# Altium footprint library USBConnectors.PCBLIB: 26 footprints (part 1 of 2)
Each footprint in its own frame and in the unit in brackets; x right, y up, seen from the top. Pads: shape width x height; smd on the part's side, far side on the other; paste and mask are expansions set on the pad; w line width, h text height; cw(c..) or ccw(c..) is an arc to the next point about the centre after c.
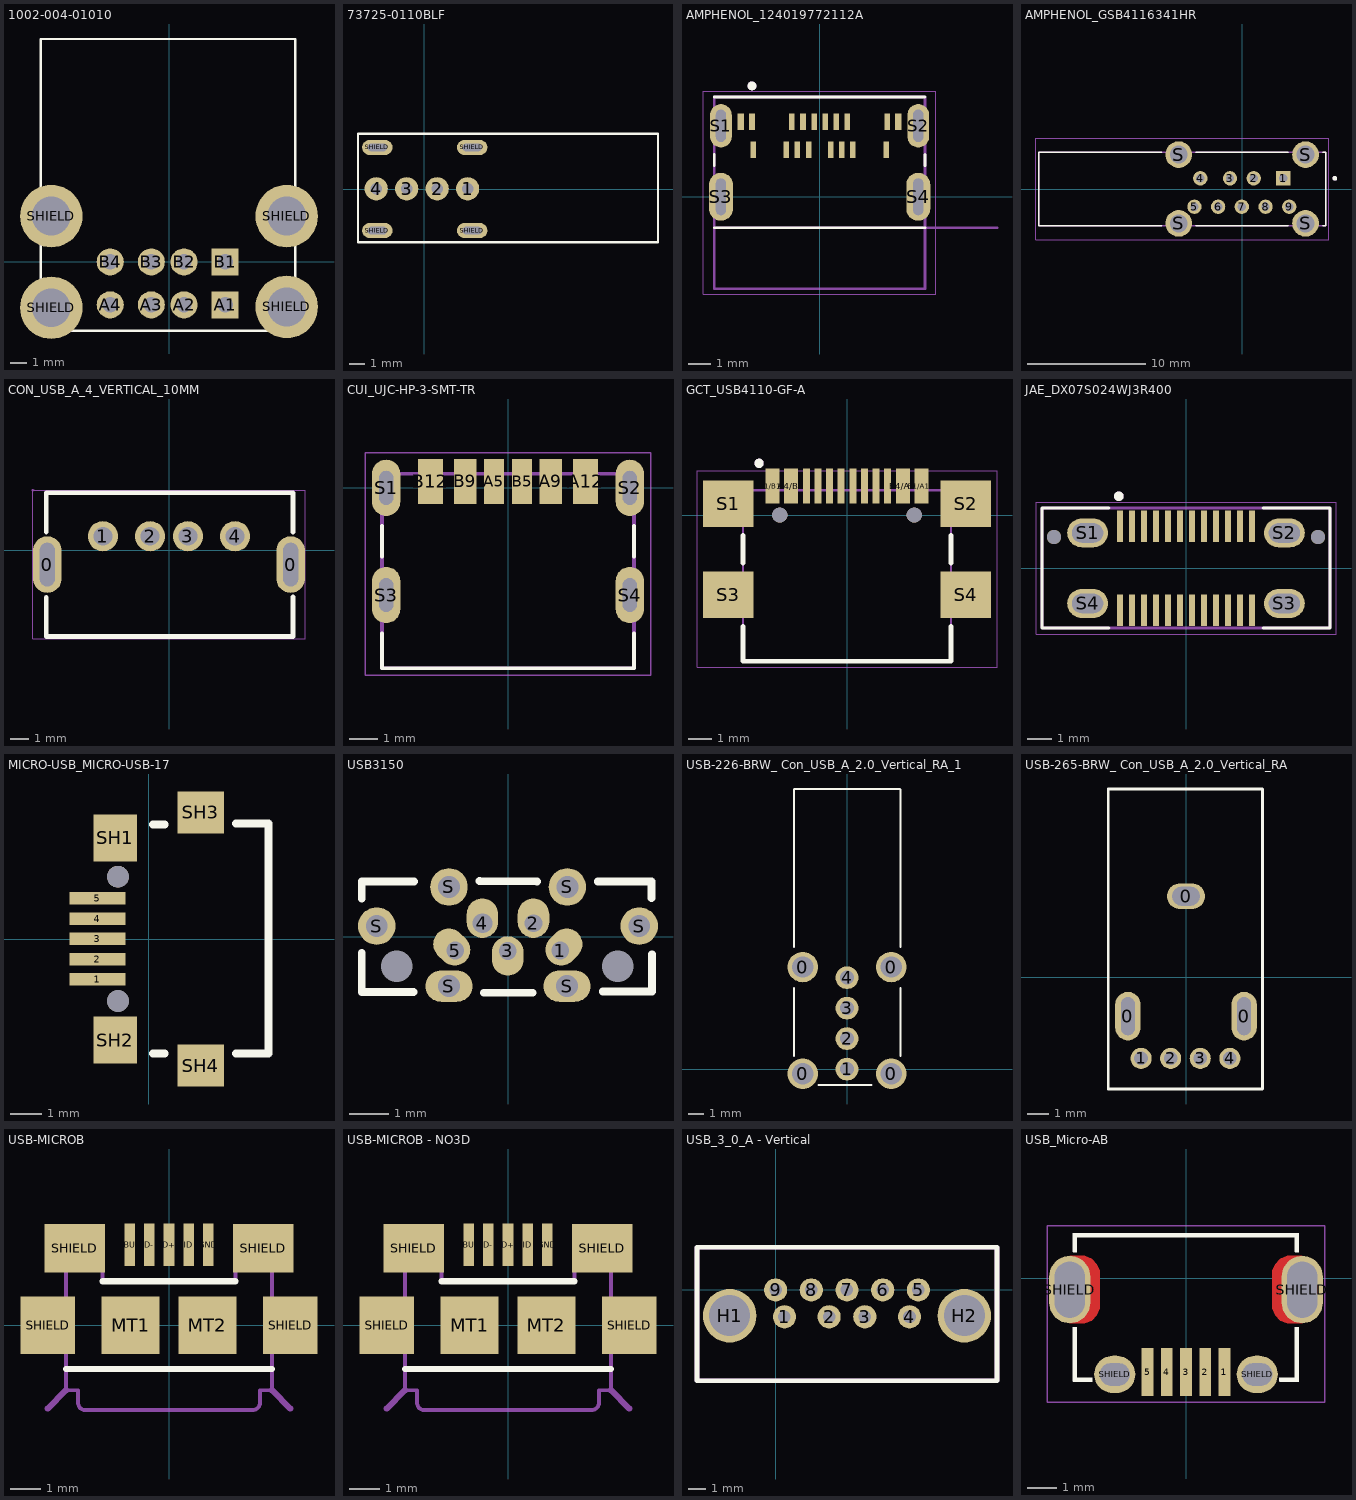
[diagram p0: the footprints below, top view; thin cyan lines are the x and y axes]

## 1002-004-01010 [mil]
pads (12):
  rect 65x65 hole 37: A1(134.5,-103) B1(134.5,0)
  round 65 hole 37: A2(36,-103) A3(-42.5,-103) A4(-141.1,-103) B2(36,0) B3(-42.5,0) B4(-141.1,0)
  round 150 hole 93: SHIELD(-282.5,-110) SHIELD(-282.5,110) SHIELD(282.5,-108) SHIELD(282.5,110)
Top Overlay:
  lines w5.91: -307.5,-165 302.5,-165 302.5,535 -307.5,535 -307.5,-165
3D body "1002-004-01010.step": height 636.33, standoff -158.95, extent -306.28,-163.81 299.61,535.01

## 73725-0110BLF [mil]
pads (8):
  round 60 hole 30: 1(112.22,0.5) 2(33.48,0.5) 3(-45.26,0.5) 4(-124,0.5)
  oval 78.74x39.37 hole 19.68 slot 49.21 at 0 deg: SHIELD(-121,-107.5) SHIELD(-121,107.5) SHIELD(124,-107.5) SHIELD(124,107.5)
Top Overlay:
  lines w5.91: -171,-137.5 -171,142.5 604,142.5 604,-137.5 -171,-137.5
3D body "73725-0110blfc.stp": height 572.47, standoff -128.93, extent -171.37,-140.17 604.22,140.49

## AMPHENOL_124019772112A [mm]
pads (22):
  rect 0.25x0.75 smd: A1(-3.05,3.375) A4(-1.25,3.375) A5(-0.75,3.375) A6(-0.25,3.375) A7(0.25,3.375) A8(0.75,3.375) A9(1.25,3.375) A12(3.05,3.375) B1(3,2.125) B4(1.5,2.125) B5(1,2.125) B6(0.5,2.125) B7(-0.5,2.125) B8(-1,2.125) B9(-1.5,2.125) B12(-3,2.125)
  rect 0.3x0.75 smd: G1(-3.55,3.375) G2(3.55,3.375)
  oval 0.98x1.96 hole 0.45 slot 1.45 at 90 deg: S1(-4.45,3.2) S2(4.45,3.2)
  oval 1.08x2.16 hole 0.45 slot 1.65 at 90 deg: S3(-4.45,0) S4(4.45,0)
Top Overlay:
  circle w0.2: c-3.05,5 r0.1
  lines w0.127: -4.75,-1.4 4.75,-1.4 ; -4.75,1.4 -4.75,1.9 ; -4.75,4.5 4.75,4.5 ; 4.75,1.4 4.75,1.9
Mechanical 13:
  circle w0.2: c-3.05,5 r0.1
  lines w0.127: 8,-1.4 -4.75,-1.4 ; -4.75,-1.4 -4.75,-4.15 4.75,-4.15 4.75,4.5 -4.75,4.5 -4.75,-1.4
  text "PCB EDGE" at 5.4,-1.2 h0.61
Mechanical 15:
  lines w0.05: -5.24,-4.4 5.24,-4.4 5.24,4.75 -5.24,4.75 -5.24,-4.4
3D body "124019772112A.step": height 3.54, standoff -0.52, extent -4.92,-4.16 4.93,4.49

## AMPHENOL_GSB4116341HR [mm]
height 14.6
pads (13):
  rect 1.208x1.208 hole 0.7: 1(3.48,0.9)
  round 1.208 hole 0.7: 2(0.98,0.9) 3(-1.02,0.9) 4(-3.52,0.9) 5(-4.02,-1.5) 6(-2.02,-1.5) 7(-0.02,-1.5) 8(1.98,-1.5) 9(3.98,-1.5)
  round 2.25 hole 1.5: S(-5.35,-2.9) S(-5.35,2.9) S(5.35,-2.9) S(5.35,2.9)
Top Overlay:
  circle w0.2: c7.82,0.9 r0.1
  lines w0.127: -6.795,-3.1 -17.13,-3.1 -17.13,3.1 -6.795,3.1 ; -3.905,-3.1 3.905,-3.1 ; -3.905,3.1 3.905,3.1 ; 6.795,-3.1 7.07,-3.1 7.07,3.1 6.795,3.1
Mechanical 13:
  circle w0.2: c7.82,0.9 r0.1
  lines w0.127: -17.13,-3.1 7.07,-3.1 7.07,3.1 -17.13,3.1 -17.13,-3.1
Mechanical 15:
  lines w0.05: -17.38,-4.275 -17.38,4.275 7.32,4.275 7.32,-4.275 -17.38,-4.275
3D body "664_GSB4116341HR.stp": height 14.7, standoff -2.74, extent -17.13,-3.75 7.07,3.75

## CON_USB_A_4_VERTICAL_10MM [mm]
pads (6):
  oval 1.524x3 hole 0.8 slot 2.3 at 90 deg: 0(-6.45,-0.75) 0(6.45,-0.75)
  round 1.6 hole 1: 1(-3.5,0.75) 2(-1,0.75) 3(1,0.75) 4(3.5,0.75)
Top Overlay:
  lines w0.254: -6.504,-2.48 -6.504,-4.56 6.577,-4.56 6.577,-2.473 ; -6.504,0.98 -6.504,3.06 6.577,3.06 6.577,0.973
Mechanical 15:
  region: -7.272,3.187 -7.272,3.212 -7.237,3.247 -7.187,3.247 -7.152,3.212 -7.152,3.187 -7.152,3.162 -7.187,3.127 -7.237,3.127 -7.272,3.162
  lines w0.051: -7.212,-4.687 -7.212,3.187 7.212,3.187 7.212,-4.687 -7.212,-4.687
3D body "USB-A-TH_USB-246-BRW.step": height 10.01, standoff -2.79, extent -6.514,-4.39 6.587,3.06

## CUI_UJC-HP-3-SMT-TR [mm]
pads (10):
  rect 0.7x1.6 smd: A5(-0.5,0.23) B5(0.5,0.23)
  rect 0.8x1.6 smd: A9(1.52,0.23) B9(-1.52,0.23)
  rect 0.9x1.6 smd: A12(2.75,0.23) B12(-2.75,0.23)
  oval 1x2 hole 0.5 slot 1.2 at 90 deg: S1(-4.32,0) S2(4.32,0) S3(-4.32,-3.8) S4(4.32,-3.8)
Top Overlay:
  lines w0.127: -4.47,-5.15 -4.47,-6.4 4.47,-6.4 4.47,-5.15 ; -4.47,-2.45 -4.47,-1.35 ; 4.47,-2.45 4.47,-1.35
Mechanical 13:
  lines w0.127: -4.47,-6.4 4.47,-6.4 4.47,0.5 -4.47,0.5 -4.47,-6.4
Mechanical 15:
  lines w0.05: -5.07,-6.65 5.07,-6.65 5.07,1.25 -5.07,1.25 -5.07,-6.65
3D body "UJC-HP-3-SMT-TR--3DModel-STEP-56544.STEP": height 3.26, standoff -1, extent -4.47,-6.4 4.47,0.5

## GCT_USB4110-GF-A [mm]
pads (18):
  rect 0.6x1.5 smd: A1/B12(-3.2,1.25) A4/B9(-2.4,1.25) B1/A12(3.2,1.25) B4/A9(2.4,1.25)
  rect 0.3x1.5 smd: A5(-1.25,1.25) A6(-0.25,1.25) A7(0.25,1.25) A8(1.25,1.25) B5(1.75,1.25) B6(0.75,1.25) B7(-0.75,1.25) B8(-1.75,1.25)
  rect 2.18x2 smd: S1(-5.11,0.5) S2(5.11,0.5) S3(-5.11,-3.43) S4(5.11,-3.43)
  round 0.65 hole 0.65 unplated: ""(-2.89,0) ""(2.89,0)
Top Overlay:
  circle w0.2: c-3.78,2.23 r0.1
  lines w0.2: -4.47,-4.79 -4.47,-6.28 4.47,-6.28 4.47,-4.79 ; -4.47,-2.07 -4.47,-0.86 ; 4.47,-2.07 4.47,-0.86
Mechanical 13:
  circle w0.2: c-3.78,2.23 r0.1
  lines w0.1: -4.47,-6.28 -4.47,1.07 4.47,1.07 4.47,-6.28 -4.47,-6.28
Mechanical 15:
  lines w0.05: -6.45,-6.53 6.45,-6.53 6.45,1.9 -6.45,1.9 -6.45,-6.53
3D body "USB4110-GF-A--3DModel-STEP-269445.STEP": height 3.26, standoff -0.63, extent -5.65,-6.28 5.65,1.42

## JAE_DX07S024WJ3R400 [mm]
pads (30):
  rect 0.27x1.3 smd: A1(-2.75,1.75) A2(-2.25,1.75) A3(-1.75,1.75) A4(-1.25,1.75) A5(-0.75,1.75) A6(-0.25,1.75) A7(0.25,1.75) A8(0.75,1.75) A9(1.25,1.75) A10(1.75,1.75) A11(2.25,1.75) A12(2.75,1.75) B1(2.75,-1.75) B2(2.25,-1.75) B3(1.75,-1.75) B4(1.25,-1.75) B5(0.75,-1.75) B6(0.25,-1.75) B7(-0.25,-1.75) B8(-0.75,-1.75) B9(-1.25,-1.75) B10(-1.75,-1.75) B11(-2.25,-1.75) B12(-2.75,-1.75)
  oval 1.7x1.2 hole 0.8 slot 1.3 at 0 deg: S1(-4.1,1.47) S2(4.1,1.47) S3(4.1,-1.47) S4(-4.1,-1.47)
  round 0.6 hole 0.6 unplated: ""(-5.5,1.3) ""(5.5,1.3)
Top Overlay:
  circle w0.2: c-2.8,3 r0.1
  lines w0.127: -3.2,-2.5 -6,-2.5 -6,2.5 -3.2,2.5 ; 3.2,-2.5 6,-2.5 6,2.5 3.2,2.5
Mechanical 13:
  circle w0.2: c-2.8,3 r0.1
  lines w0.127: -6,-2.5 6,-2.5 6,2.5 -6,2.5 -6,-2.5
Mechanical 15:
  lines w0.05: -6.25,-2.75 6.25,-2.75 6.25,2.75 -6.25,2.75 -6.25,-2.75
3D body "DX07S024WJ3R400.STEP": height 10.2, standoff -1.95, extent -6,-2.5 6,2.5

## MICRO-USB_MICRO-USB-17 [mm]
pads (11):
  rect 1.8x0.4 smd: 1(-1.661,-1.297) 2(-1.661,-0.646) 3(-1.661,0.004) 4(-1.661,0.654) 5(-1.661,1.304)
  rect 1.4x1.5 smd: SH1(-1.08,3.25) SH2(-1.08,-3.25)
  rect 1.5x1.35 smd: SH3(1.661,4.075) SH4(1.661,-4.075)
  round 0.7 hole 0.7 unplated: ""(-0.999,-1.994) ""(-0.999,2.004)
Top Overlay:
  lines w0.254: 0.127,-3.683 0.508,-3.683 ; 0.127,3.683 0.508,3.683 ; 2.794,-3.685 3.85,-3.685 3.85,3.715 2.794,3.715
3D body "629105136821_Download_STP_629105136821_rev1.stp": height 2.71, standoff -0.59, extent -1.626,-4 4.278,4

## USB3150 [mm]
pads (13):
  oval 0.8x1 hole 0.45 copper offset 0.09,0.09 rot 135: 1(1.325,-0.355)
  oval 0.8x1 hole 0.45 copper offset 0,0.127: 2(0.645,0.338)
  oval 0.8x1 hole 0.45 copper offset 0,-0.127: 3(-0.005,-0.365)
  oval 0.8x1 hole 0.5 copper offset 0,0.127: 4(-0.648,0.338)
  oval 0.8x1 hole 0.45 copper offset -0.09,0.09 rot 45: 5(-1.335,-0.355)
  round 0 hole 0.8: MT1(-2.815,-0.755) MT2(2.785,-0.755)
  round 0.95 hole 0.55: S(-3.325,0.265) S(-1.495,1.255) S(1.505,1.255) S(3.325,0.265)
  oval 1.2x0.8 hole 0.55: S(-1.495,-1.255) S(1.495,-1.255)
Top Overlay:
  lines w0.2: -3.705,-0.415 -3.705,-1.405 -2.395,-1.405 ; -3.705,0.965 -3.705,1.395 -2.385,1.395 ; -0.724,1.405 0.735,1.395 ; -0.615,-1.425 0.625,-1.425 ; 2.273,1.395 3.635,1.395 3.635,0.973 ; 2.4,-1.395 3.645,-1.395 3.645,-0.45
3D body "usb3150.step": height 7.14, standoff -1.29, extent -3.688,-1.415 3.662,1.385

## USB-226-BRW_ Con_USB_A_2.0_Vertical_RA_1 [mm]
pads (8):
  round 2 hole 1.4: 0(-2.9,-0.3) 0(-2.9,6.7) 0(2.9,-0.3) 0(2.9,6.7)
  round 1.5 hole 0.92: 1(0,0) 2(0,2) 3(0,4) 4(0,6)
Top Overlay:
  lines w0.127: -3.475,0.875 -3.475,5.325 ; -3.475,8 -3.475,18.35 -3.45,18.375 3.475,18.375 ; -1.875,-1.05 1.6,-1.05 ; 3.5,0.875 3.5,5.325 ; 3.5,8 3.5,18.35
3D body "USB-A-TH_USB-226-BRW.step": height 13.8, standoff -3.1, extent -3.498,-1.05 3.498,18.35

## USB-265-BRW_ Con_USB_A_2.0_Vertical_RA [mm]
pads (7):
  oval 1.2x2.3 hole 0.65 slot 1.8 at 90 deg: 0(-2.75,-1.837) 0(2.75,-1.837)
  oval 1.8x1.2 hole 0.9 slot 1.3 at 0 deg: 0(0,3.838)
  round 1 hole 0.65: 1(-2.125,-3.838) 2(-0.725,-3.838) 3(0.675,-3.838) 4(2.075,-3.838)
Top Overlay:
  lines w0.127: -3.675,-5.288 -3.675,8.912 3.625,8.912 3.625,-5.288 -3.675,-5.288
3D body "USB-TH_USB-265-BRY.step": height 13.78, standoff -2.89, extent -3.677,-5.314 3.627,8.907

## USB-MICROB [mm]
pads (11):
  rect 0.35x1.4 smd: D+(0,2.65) D-(-0.65,2.65) GND(1.3,2.65) ID(0.65,2.65) VBUS(-1.3,2.65)
  rect 1.9x1.9 smd: MT1(-1.27,0) MT2(1.27,0)
  rect 1.8x1.9 smd: SHIELD(-4,0) SHIELD(4,0)
  rect 2x1.6 smd: SHIELD(-3.111,2.54) SHIELD(3.111,2.54)
Top Overlay:
  lines w0.203: -3.4,-1.45 3.4,-1.45 ; -2.2,1.45 2.2,1.45
Mechanical 16:
  lines w0.127: -3.4,-1.45 -3.4,-2.15 -3,-2.15 -3,-2.55 ccw(c-2.762,-2.565) -2.8,-2.8 2.75,-2.8 ccw(c2.765,-2.563) 3,-2.6 3,-2.15 3.4,-2.15 3.4,-1.45 ; -3.4,-1.45 -3.4,2.85 -2.2,2.85 -2.2,1.45 2.2,1.45 2.2,2.85 3.4,2.85 3.4,-1.45 ; -3.4,-1.45 3.4,-1.45
  lines w0.203: -4,-2.75 -3.4,-2.15 ; 3.4,-2.15 4,-2.75
3D body "User Library-10118192.step": height 2.73, standoff -0.28, extent -3.956,-2.74 3.956,2.921

## USB-MICROB - NO3D [mm]
pads (11):
  rect 0.35x1.4 smd: D+(0,2.65) D-(-0.65,2.65) GND(1.3,2.65) ID(0.65,2.65) VBUS(-1.3,2.65)
  rect 1.9x1.9 smd: MT1(-1.27,0) MT2(1.27,0)
  rect 1.8x1.9 smd: SHIELD(-4,0) SHIELD(4,0)
  rect 2x1.6 smd: SHIELD(-3.111,2.54) SHIELD(3.111,2.54)
Top Overlay:
  lines w0.203: -3.4,-1.45 3.4,-1.45 ; -2.2,1.45 2.2,1.45
Mechanical 16:
  lines w0.127: -3.4,-1.45 -3.4,-2.15 -3,-2.15 -3,-2.55 ccw(c-2.762,-2.565) -2.8,-2.8 2.75,-2.8 ccw(c2.765,-2.563) 3,-2.6 3,-2.15 3.4,-2.15 3.4,-1.45 ; -3.4,-1.45 -3.4,2.85 -2.2,2.85 -2.2,1.45 2.2,1.45 2.2,2.85 3.4,2.85 3.4,-1.45 ; -3.4,-1.45 3.4,-1.45
  lines w0.203: -4,-2.75 -3.4,-2.15 ; 3.4,-2.15 4,-2.75

## USB_3_0_A - Vertical [mm]
pads (11):
  round 1.3 hole 0.7: 1(0.5,-1.5) 2(3,-1.5) 3(5,-1.5) 4(7.5,-1.5) 5(8,0) 6(6,0) 7(4,0) 8(2,0) 9(0,0)
  round 3 hole 2.3: H1(-2.57,-1.44) H2(10.57,-1.44)
Top Overlay:
  lines w0.254: -4.4,-5.09 -4.4,2.4 12.4,2.4 12.4,-5.09 -4.4,-5.09
Mechanical 1:
  lines w0.254: -4.4,-5.09 12.4,-5.09 12.4,2.4 -4.4,2.4 -4.4,-5.09
3D body "10117836.STEP": height 14.8, standoff -4, extent -3.887,-4.91 11.787,2.21

## USB_Micro-AB [mil]
height 153.54
pads (9):
  rect 15.75x64 smd: 1(51.18,-125) 2(25.59,-125) 3(0,-125) 4(-25.59,-125) 5(-51.18,-125)
  oval 55x90 hole 40 slot 75 at 90 deg mask+0: SHIELD(-155,-15) SHIELD(155,-15)
  oval 55x50 hole 30 slot 40 at 0 deg mask+0: SHIELD(-95,-128) SHIELD(95,-128)
Top Layer:
  region: -155,30 -140,30 -135.03,30 -125.84,26.19 -118.81,19.16 -115,9.97 -115,5 -115,-35 -115,-39.97 -118.81,-49.16 -125.84,-56.19 -135.03,-60 -140,-60 -155,-60
  region: 155,-60 140,-60 135.03,-60 125.84,-56.19 118.81,-49.16 115,-39.97 115,-35 115,5 115,9.97 118.81,19.16 125.84,26.19 135.03,30 140,30 155,30
Top Overlay:
  region: -150.5,35.5 -150.5,60.5 150.5,60.5 150.5,35.5 145.5,35.5 145.5,55.5 -145.5,55.5 -145.5,35.5
  region: -150.5,-65 -145.5,-65 -145.5,-132.5 -125,-132.5 -125,-137.5 -150.5,-137.5
  region: 145.5,-65 150.5,-65 150.5,-137.5 125,-137.5 125,-132.5 145.5,-132.5
  lines w1: -150.5,-137.5 -125,-137.5 -125,-132.5 -145.5,-132.5 -145.5,-65 -150.5,-65 -150.5,-137.5 ; -150.5,35.5 -145.5,35.5 -145.5,55.5 145.5,55.5 145.5,35.5 150.5,35.5 150.5,60.5 -150.5,60.5 -150.5,35.5 ; 125,-137.5 150.5,-137.5 150.5,-65 145.5,-65 145.5,-132.5 125,-132.5 125,-137.5
Top Solder:
  region: -155,30 -140,30 -135.03,30 -125.84,26.19 -118.81,19.16 -115,9.97 -115,5 -115,-35 -115,-39.97 -118.81,-49.16 -125.84,-56.19 -135.03,-60 -140,-60 -155,-60
  region: 155,-60 140,-60 135.03,-60 125.84,-56.19 118.81,-49.16 115,-39.97 115,-35 115,5 115,9.97 118.81,19.16 125.84,26.19 135.03,30 140,30 155,30
Mechanical 14:
  lines w2: -185,-165 185,-165 185,70 -185,70 -185,-165
3D body "User Library-MicroUSB-B_Molex_105017-0001.STEP": height 108.07, standoff -21.85, extent -161.42,-134.33 161.42,79.45